# Altium schematic symbol library sheme.SchLib: 14 symbols
Pins are listed as number, name and electrical type; pins without a type are passive.

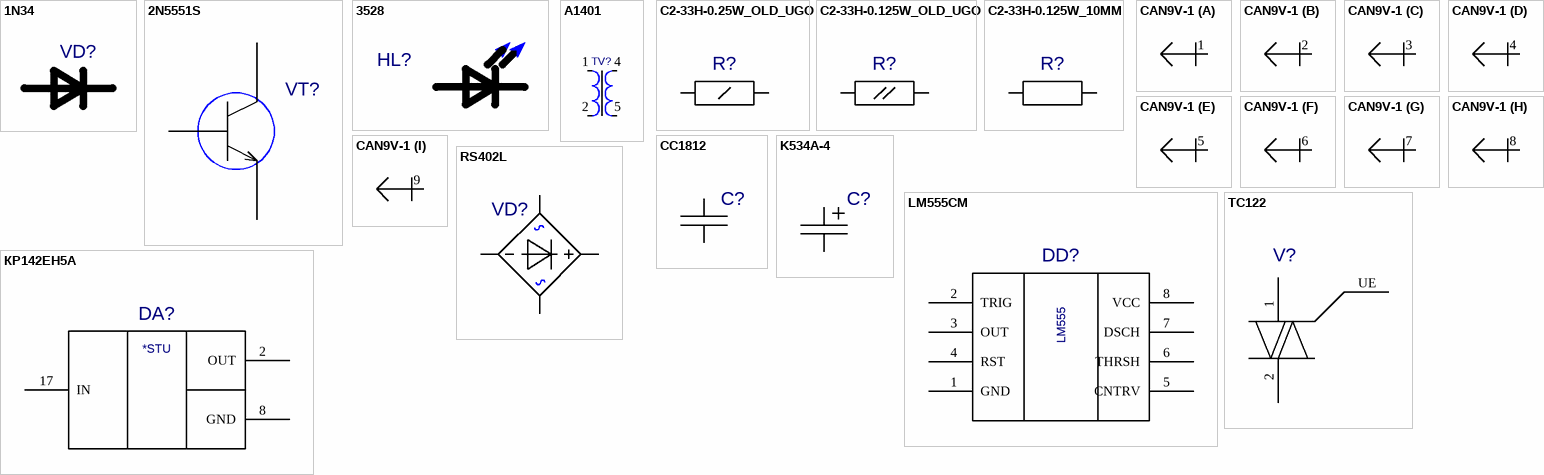
[diagram p0: symbols 1N34 to КР142ЕН5А]

## 1N34
designator VD?  (value not drawn)
Value: *
footprint DO-7
pins: A, K

## 2N5551S
designator VT?  (value not drawn)
Value: *
footprint SOT-23
pins: 1 E, 2 B, 3 K

## 3528
designator HL?  (value not drawn)
Value: *
footprint 3528
pins: A, K

## A1401
designator TV?  (value not drawn)
Value: *
footprint TRS-3-1
pins: 1, 2, 3 hidden, 4, 5, 6 hidden, 7 hidden, 8 hidden

## C2-33H-0.25W_OLD_UGO
designator R?  (value not drawn)
Value: *
footprint C2-33H-0.25W
pins: 1, 2

## C2-33H-0.125W_OLD_UGO
designator R?  (value not drawn)
Value: *
footprint C2-33H-0.125W
pins: 1, 2

## C2-33Н-0.125W_10ММ
designator R?  (value not drawn)
Value: *
footprint C2-33H-0.125W_10MM
pins: 1, 2

## CAN9V-1
designator X?  (value not drawn)
Value: *
footprint CAN9V
part A pins: 1 i/o
part B pins: 2 i/o
part C pins: 3 i/o
part D pins: 4 i/o
part E pins: 5 i/o
part F pins: 6 i/o
part G pins: 7 i/o
part H pins: 8 i/o
part I pins: 9 i/o

## CC1812
designator C?  (value not drawn)
Value: *
footprint CC1812
pins: 1, 2

## K534A-4
designator C?  (value not drawn)
Value: *
footprint K534A-4
pins: 1 I/OA, 2 I/OB

## LM555CM
designator DD?  (value not drawn)
Value: *
footprint SO-8
pins: 1 GND, 2 TRIG, 3 OUT, 4 RST, 5 CNTRV, 6 THRSH, 7 DSCH, 8 VCC
text: LM555

## RS402L
designator VD?  (value not drawn)
Value: *
footprint RS-4L
pins: 1 +, 2, 3, 4 -

## TC122
designator V?  (value not drawn)
Value: *
footprint TC122
pins: 1 E2, 2 E1, 4 hidden, 5 hidden, UE

## КР142ЕН5А
designator DA?  (value not drawn)
Value: *
footprint TO-220-KT-28-2
pins: 2 OUT, 4 hidden, 8 GND, 17 IN
text: *STU